# EAGLE library part MIC5891 (library CyberRailGuru)
8-bit shift register, latch, and high side driver output
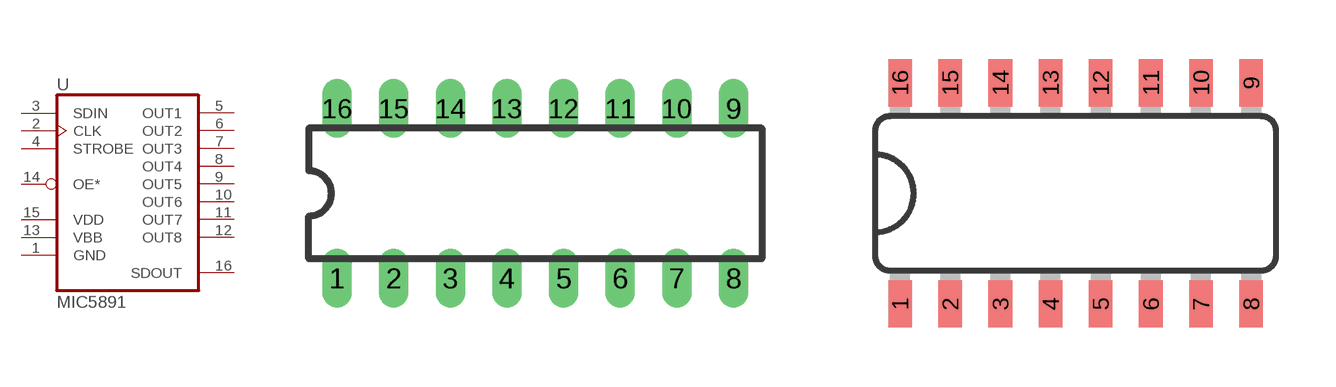
[diagram p16: symbol with the pads of DIL16; footprints DIL16, SO16]

Designator prefix U

## MIC5891YN  [DIL16]
1  GND  pwr
2  CLK  in
3  SDIN  in
4  STROBE  in
5  OUT1  hiz
6  OUT2  hiz
7  OUT3  hiz
8  OUT4  hiz
9  OUT5  hiz
10  OUT6  hiz
11  OUT7  hiz
12  OUT8  hiz
13  VBB  pwr
14  OE*  in
15  VDD  pwr
16  SDOUT  out

## MIC5891YWM  [SO16]
Pads as for DIL16

## Footprint DIL16 (pad centres in mm)
Dual In Line Package
drill 0.813 long: 1 -8.89,-3.81; 2 -6.35,-3.81; 3 -3.81,-3.81; 4 -1.27,-3.81; 5 1.27,-3.81; 6 3.81,-3.81; 7 6.35,-3.81; 8 8.89,-3.81; 9 8.89,3.81; 10 6.35,3.81; 11 3.81,3.81; 12 1.27,3.81; 13 -1.27,3.81; 14 -3.81,3.81; 15 -6.35,3.81; 16 -8.89,3.81

## Footprint SO16 (pad centres in mm)
Small Outline package 150 mil
smd 0.6 x 1.2: 1 -4.445,-2.8; 2 -3.175,-2.8; 3 -1.905,-2.8; 4 -0.635,-2.8; 5 0.635,-2.8; 6 1.905,-2.8; 7 3.175,-2.8; 8 4.445,-2.8; 9 4.445,2.8; 10 3.175,2.8; 11 1.905,2.8; 12 0.635,2.8; 13 -0.635,2.8; 14 -1.905,2.8; 15 -3.175,2.8; 16 -4.445,2.8